# Altium schematic symbol library Diodes.SchLib: 2 symbols
Pins are listed as number, name and electrical type; pins without a type are passive.

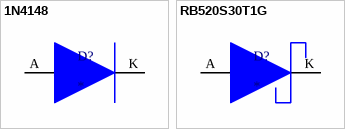
[diagram p0: symbols 1N4148 to RB520S30T1G]

## 1N4148
designator D?
Small Signal Fast Switching Diodes
footprint 1N4148W (Fast Switching SMD Diode)
pins: A Anode, K Cathode

## RB520S30T1G
designator D?
Schottky Barrier Diode;
footprint RB520S30T1G
pins: A Anode, K Cathode